# EAGLE library part 621X24242921 (library Wurth_Elektronik_Electromechanic_Board_to_Board_Connectors_rev16a)
WR-PHD 2.00mm Dual SMT Socket Header, 24 Pins=>Code : Con_BTB_SHD_2.00_2_621x24242921(Packaging:x = 0: Tube x = 3: Tape & Reel with Cap; 600 pcs/Reel) <http://katalog.we-online.de/media/thumbs2/eican/thb_Con_BTB_SHD_2.00_2_6210xx242921_pf2.jpg> 6210xx242921 Details see: http://katalog.we-online.de/en/em/621_0xx_242_921 6213xx242921 Details see: http://katalog.we-online.de/en/em/PHD_2_00_SMT_DUAL_SOCKET_HEADER_REEL_6213XX242921 Created 2014-06-03, Karrer Zheng 2014 (C) Würth Elektronik
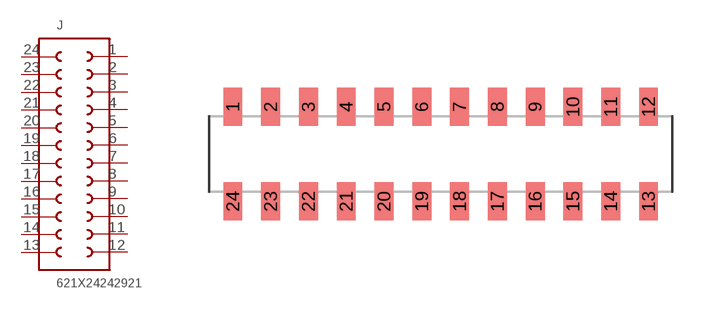
[diagram p272: symbol with the pads of 621X24242921; footprint 621X24242921]

Designator prefix J

## 621X24242921  [621X24242921]
1  1  pas
2  2  pas
3  3  pas
4  4  pas
5  5  pas
6  6  pas
7  7  pas
8  8  pas
9  9  pas
10  10  pas
11  11  pas
12  12  pas
13  13  pas
14  14  pas
15  15  pas
16  16  pas
17  17  pas
18  18  pas
19  19  pas
20  20  pas
21  21  pas
22  22  pas
23  23  pas
24  24  pas

## Footprint 621X24242921 (pad centres in mm)
WR-PHD 2.00mm Dual SMT Socket Header, 24 Pins
smd 1 x 2: 1 -11,2.5; 2 -9,2.5; 3 -7,2.5; 4 -5,2.5; 5 -3,2.5; 6 -1,2.5; 7 1,2.5; 8 3,2.5; 9 5,2.5; 10 7,2.5; 11 9,2.5; 12 11,2.5; 13 11,-2.5; 14 9,-2.5; 15 7,-2.5; 16 5,-2.5; 17 3,-2.5; 18 1,-2.5; 19 -1,-2.5; 20 -3,-2.5; 21 -5,-2.5; 22 -7,-2.5; 23 -9,-2.5; 24 -11,-2.5